# EAGLE library part 74*53 (library 74xxN)
4-2-3-2 input AND OR INVERTER gates
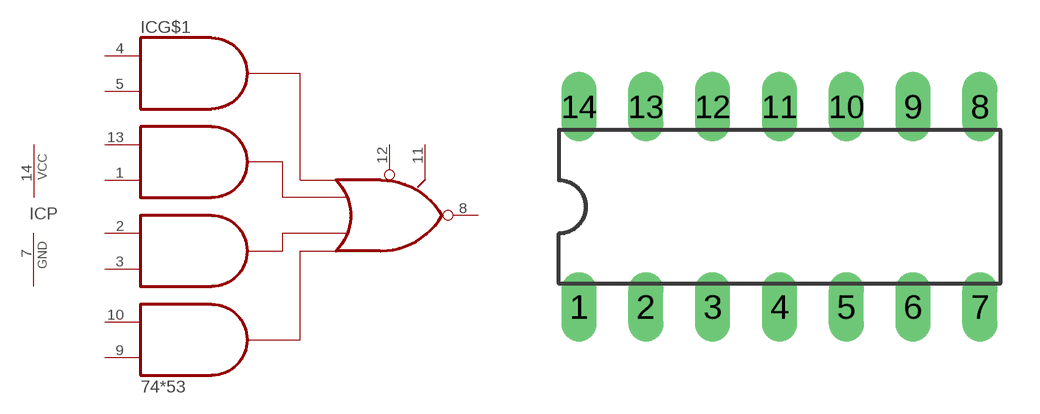
[diagram p3: symbol with the pads of DIL14; footprint DIL14]

Designator prefix IC; gates P=PWRN G$1=7453

## 7453N, 74LS53N  [DIL14]
1  G$1:I4  in
2  G$1:I5  in
3  G$1:I6  in
4  G$1:I1  in
5  G$1:I2  in
7  P:GND  pwr
8  G$1:O  out
9  G$1:I8  in
10  G$1:I7  in
11  G$1:I10  pas
12  G$1:I9  pas
13  G$1:I3  in
14  P:VCC  pwr

## Footprint DIL14 (pad centres in mm)
Dual In Line Package
drill 0.813 long: 1 -7.62,-3.81; 2 -5.08,-3.81; 3 -2.54,-3.81; 4 0,-3.81; 5 2.54,-3.81; 6 5.08,-3.81; 7 7.62,-3.81; 8 7.62,3.81; 9 5.08,3.81; 10 2.54,3.81; 11 0,3.81; 12 -2.54,3.81; 13 -5.08,3.81; 14 -7.62,3.81